# EAGLE library part MX1508 (library UNIT_Biblioteca_Modulos)
MX1508 Source: Datasheet <https://cdn.hackaday.io/files/1960798389043936/MX1508_Datasheet.pdf> SKU: Propietario: UNIT Electronics Desarrollador: Alberto Villanueva
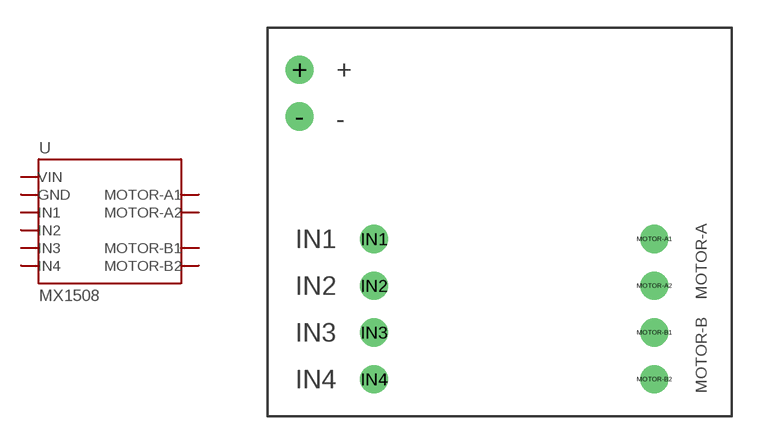
[diagram p29: symbol with the pads of MX1508; footprint MX1508]

Designator prefix U

## MX1508 (CLASS: Module; DESCRIPTION: DC motor drive; MANUFACTURER_PART_NUMBER: MX1508; VENDOR_PART_NUMBER: AR0398; VENDOR_PRICE-STOCK: https://uelectronics.com/producto/doble-puente-h/)  [MX1508]
+  VIN
-  GND
IN1  IN1
IN2  IN2
IN3  IN3
IN4  IN4
MOTOR-A1  MOTOR-A1
MOTOR-A2  MOTOR-A2
MOTOR-B1  MOTOR-B1
MOTOR-B2  MOTOR-B2

## Footprint MX1508 (pad centres in mm)
drill 1.02: + -10.875,8.26; - -10.875,5.72; IN1 -6.825,-0.93; IN2 -6.825,-3.47; IN3 -6.825,-6.01; IN4 -6.825,-8.55; MOTOR-A1 8.415,-0.93; MOTOR-A2 8.415,-3.47; MOTOR-B1 8.415,-6.01; MOTOR-B2 8.415,-8.55